# Altium integrated library Modules.IntLib: 6 symbols
Pins are listed as number, name and electrical type; pins without a type are passive.

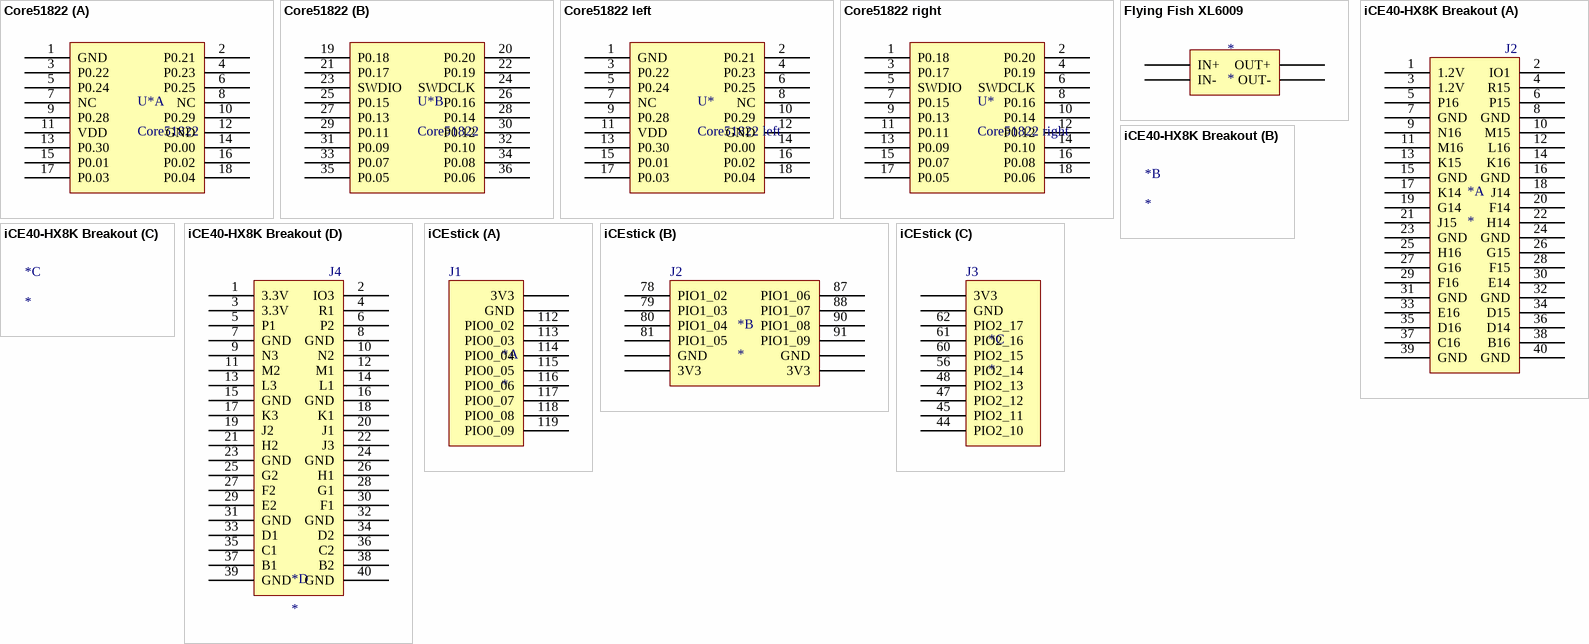
[diagram p0: symbols Core51822 to iCEstick]

## Core51822
designator U*
footprint Core51822
part A pins: 1 GND, 2 P0.21, 3 P0.22, 4 P0.23, 5 P0.24, 6 P0.25, 7 NC, 8 NC, 9 P0.28, 10 P0.29, 11 VDD, 12 GND, 13 P0.30, 14 P0.00, 15 P0.01, 16 P0.02, 17 P0.03, 18 P0.04
part B pins: 19 P0.18, 20 P0.20, 21 P0.17 (power), 22 P0.19, 23 SWDIO, 24 SWDCLK, 25 P0.15, 26 P0.16, 27 P0.13, 28 P0.14, 29 P0.11, 30 P0.12, 31 P0.09, 32 P0.10, 33 P0.07, 34 P0.08, 35 P0.05, 36 P0.06

## Core51822 left
designator U*
footprint Header 2.00 2x10
pins: 1 GND, 2 P0.21, 3 P0.22, 4 P0.23, 5 P0.24, 6 P0.25, 7 NC, 8 NC, 9 P0.28, 10 P0.29, 11 VDD, 12 GND, 13 P0.30, 14 P0.00, 15 P0.01, 16 P0.02, 17 P0.03, 18 P0.04

## Core51822 right
designator U*
footprint Header 2.00 2x10
pins: 1 P0.18, 2 P0.20, 3 P0.17 (power), 4 P0.19, 5 SWDIO, 6 SWDCLK, 7 P0.15, 8 P0.16, 9 P0.13, 10 P0.14, 11 P0.11, 12 P0.12, 13 P0.09, 14 P0.10, 15 P0.07, 16 P0.08, 17 P0.05, 18 P0.06

## Flying Fish XL6009
designator *
footprint Flying Fish XL6009
pins: IN+, IN-, OUT+, OUT-

## iCE40-HX8K Breakout
designator *
part A pins: 1 1.2V (power), 2 IO1, 3 1.2V (power), 4 R15, 5 P16, 6 P15, 7 GND, 8 GND (power), 9 N16, 10 M15, 11 M16, 12 L16, 13 K15, 14 K16, 15 GND, 16 GND, 17 K14, 18 J14, 19 G14, 20 F14, 21 J15, 22 H14, 23 GND, 24 GND, 25 H16, 26 G15, 27 G16, 28 F15, 29 F16, 30 E14, 31 GND, 32 GND, 33 E16, 34 D15, 35 D16, 36 D14, 37 C16, 38 B16, 39 GND, 40 GND
part D pins: 1 3.3V (power), 2 IO3, 3 3.3V (power), 4 R1, 5 P1, 6 P2, 7 GND, 8 GND (power), 9 N3, 10 N2, 11 M2, 12 M1, 13 L3, 14 L1, 15 GND, 16 GND, 17 K3, 18 K1, 19 J2, 20 J1, 21 H2, 22 J3, 23 GND, 24 GND, 25 G2, 26 H1, 27 F2, 28 G1, 29 E2, 30 F1, 31 GND, 32 GND, 33 D1, 34 D2, 35 C1, 36 C2, 37 B1, 38 B2, 39 GND, 40 GND
part D text: J4

## iCEstick
designator *
footprint iCEstick-Shield
part A pins: 3V3, 112 PIO0_02, 113 PIO0_03, 114 PIO0_04, 115 PIO0_05, 116 PIO0_06, 117 PIO0_07, 118 PIO0_08, 119 PIO0_09, GND
part B pins: 3V3, 3V3, 78 PIO1_02, 79 PIO1_03, 80 PIO1_04, 81 PIO1_05, 87 PIO1_06, 88 PIO1_07, 90 PIO1_08, 91 PIO1_09, GND, GND
part C pins: 3V3, 44 PIO2_10, 45 PIO2_11, 47 PIO2_12, 48 PIO2_13, 56 PIO2_14, 60 PIO2_15, 61 PIO2_16, 62 PIO2_17, GND
part A text: J1
part B text: J2
part C text: J3